# Altium footprint library openadsb_rev_a.PcbLib: 19 footprints (part 2 of 2)
Each footprint in its own frame and in the unit in brackets; x right, y up, seen from the top. Pads: shape width x height; smd on the part's side, far side on the other; paste and mask are expansions set on the pad; w line width, h text height; cw(c..) or ccw(c..) is an arc to the next point about the centre after c.
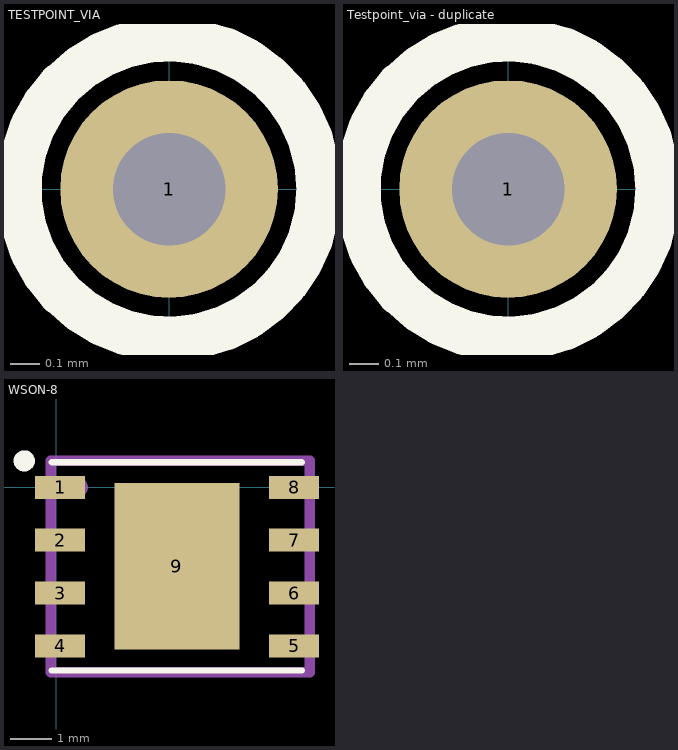
[diagram p1: the footprints below, top view; thin cyan lines are the x and y axes]

## TESTPOINT_VIA [mil]
pads (1):
  round 29 hole 15: 1(0,0)
Top Overlay:
  circle w6: c0,0 r20

## Testpoint_via - duplicate [mil]
pads (1):
  round 29 hole 15: 1(0,0)
Top Overlay:
  circle w6: c0,0 r20

## WSON-8 [mm]
height 0.9
pads (9):
  rect 1.2x0.55 smd: 1(0.1,0) 2(0.1,-1.27) 3(0.1,-2.54) 4(0.1,-3.81) 5(5.715,-3.81) 6(5.715,-2.54) 7(5.715,-1.27) 8(5.715,0)
  rect 3x4 smd: 9(2.9,-1.9)
Top Overlay:
  circle w0.254: c-0.762,0.635 r0.127
  lines w0.152: -0.1,-4.4 5.9,-4.4 ; -0.1,0.6 5.9,0.6
Mechanical 1:
  circle w0.254: c0.508,0 r0.127
  lines w0.254: -0.127,-4.445 6.096,-4.445 6.096,0.635 -0.127,0.635 -0.127,-4.445
  text ".Designator" at 1.981,-1.676 h0.51